# Altium schematic symbol library LF50CDT-TR.SchLib: 1 symbol
Pins are listed as number, name and electrical type; pins without a type are passive.

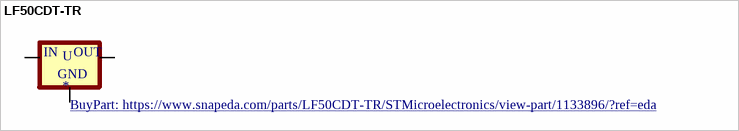
[diagram p0: symbol LF50CDT-TR]

## LF50CDT-TR
designator U
Linear Voltage Regulator IC 1 Output 500mA DPAK; MP: LF50CDT-TR; MF: STMicroelectronics; Package: TO-252 STMicroelectronics; Digi-Key_Part_Number: 497-1534-1-ND; Value: *; SnapEDA_Link: https://www.snapeda.com/parts/LF50CDT-TR/STMicroelectronics/view-part/1133896/?ref=snap; BuyPart: https://www.snapeda.com/parts/LF50CDT-TR/STMicroelectronics/view-part/1133896/?ref=eda
footprint DPAK
pins: 1 VIN (io), 3 VOUT (io), 4 GND (io)
text: IN; OUT